# Altium footprint library POWERDI5.PcbLib: 1 footprints
Each footprint in its own frame and in the unit in brackets; x right, y up, seen from the top. Pads: shape width x height; smd on the part's side, far side on the other; paste and mask are expansions set on the pad; w line width, h text height; cw(c..) or ccw(c..) is an arc to the next point about the centre after c.
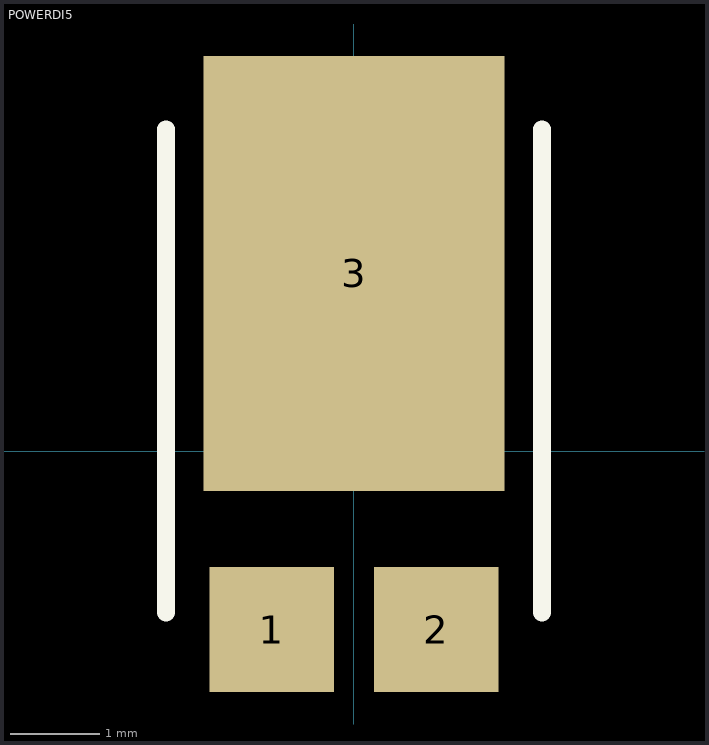
[diagram p0: the footprint, top view; thin cyan lines are the x and y axes]

## POWERDI5 [mm]
pads (3):
  rect 1.39x1.4 smd mask+0.05: 1(-0.92,-1.99) 2(0.92,-1.99)
  rect 3.36x4.86 smd mask+0.05: 3(0,1.99)
Top Overlay:
  lines w0.2: -2.1,-1.8 -2.1,3.6 ; 2.1,-1.8 2.1,3.6
3D body: height 0.38, standoff 0, extent 0.47,-2.35 1.37,-1.8
3D body: height 0.38, standoff 0, extent -1.37,-2.35 -0.47,-1.8
3D body: height 0.38, standoff 0, extent -0.9,3.6 0.9,4.15
3D body: height 1.1, standoff 0, extent -2,-1.8 2,3.6